# EAGLE library part ERM8-013-XX.X-X-DV (library con-samtec-er8)
ERM8 Series - Male
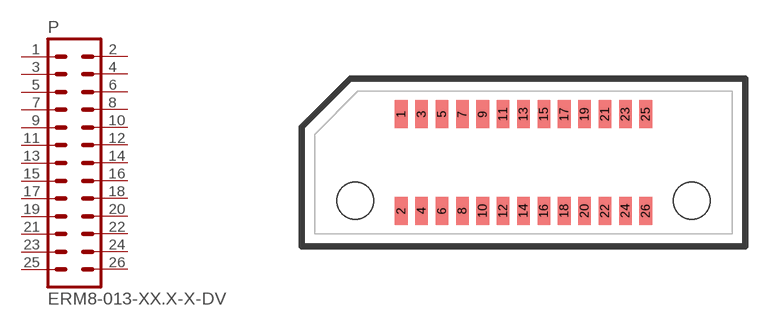
[diagram p8: symbol with the pads of ERM8-013-XX.X-X-DV; footprint ERM8-013-XX.X-X-DV]

Designator prefix P

## ERM8-013-XX.X-X-DV  [ERM8-013-XX.X-X-DV]
1  1  pas
2  2  pas
3  3  pas
4  4  pas
5  5  pas
6  6  pas
7  7  pas
8  8  pas
9  9  pas
10  10  pas
11  11  pas
12  12  pas
13  13  pas
14  14  pas
15  15  pas
16  16  pas
17  17  pas
18  18  pas
19  19  pas
20  20  pas
21  21  pas
22  22  pas
23  23  pas
24  24  pas
25  25  pas
26  26  pas

## Footprint ERM8-013-XX.X-X-DV (pad centres in mm)
0.8mm Edge Rate Terminal Assembly MALE, Double Vertical Row, 13 Position
smd 0.5 x 1.1: 1 -4.8,1.9; 2 -4.8,-1.9; 3 -4,1.9; 4 -4,-1.9; 5 -3.2,1.9; 6 -3.2,-1.9; 7 -2.4,1.9; 8 -2.4,-1.9; 9 -1.6,1.9; 10 -1.6,-1.9; 11 -0.8,1.9; 12 -0.8,-1.9; 13 0,1.9; 14 0,-1.9; 15 0.8,1.9; 16 0.8,-1.9; 17 1.6,1.9; 18 1.6,-1.9; 19 2.4,1.9; 20 2.4,-1.9; 21 3.2,1.9; 22 3.2,-1.9; 23 4,1.9; 24 4,-1.9; 25 4.8,1.9; 26 4.8,-1.9
hole 1.45 at -6.6,-1.5
hole 1.45 at 6.6,-1.5